# EAGLE library part LPC4078FBD144 (library nxp_60_1_1)
32-bit ARM Cortex-M4 MCU; up to 512 kB flash, 96 kB SRAM; USB Device/Host/OTG; Ethernet; LCD; EMC; SPIFI The LPC408x/7x is an ARM Cortex-M4 based digital signal controller for embedded applications requiring a high level of integration and low power dissipation. The ARM Cortex-M4 is a next generation core that offers system enhancements such as low power consumption, enhanced debug features, and a high level of support block integration. The ARM Cortex-M4 CPU incorporates a 3-stage pipeline, uses a Harvard architecture with separate local instruction and data buses as well as a third bus for peripherals, and includes an internal prefetch unit that supports speculative branching. The ARM Cortex-M4 supports single-cycle digital signal processing and SIMD instructions. A hardware floating-point processor is integrated in the core for several versions of the part. The LPC408x/7x adds a specialized flash memory accelerator to accomplish optimal performance when executing code from flash. The LPC408x/7x is targeted to operate at up to 120 MHz CPU frequency. The peripheral complement of the LPC408x/7x includes up to 512 kB of flash program memory, up to 96 kB of SRAM data memory, up to 4032 byte of EEPROM data memory, External Memory controller (EMC), LCD, Ethernet, USB Device/Host/OTG, an SPI Flash Interface (SPIFI), a General Purpose DMA controller, five UARTs, three SSP controllers, three I 2 C-bus interfaces, a Quadrature Encoder Interface, four general purpose timers, two general purpose PWMs with six outputs each and one motor control PWM, an ultra-low power RTC with separate battery supply and event recorder, a windowed watchdog timer, a CRC calculation engine and up to 165 general purpose I/O pins. The analog peripherals include one eight-channel 12-bit ADC, two analog comparators, and a DAC. The pinout of LPC408x/7x is intended to allow pin function compatibility with the LPC24xx/23xx as well as the LPC178x/7x families. AAL Eindhoven MK
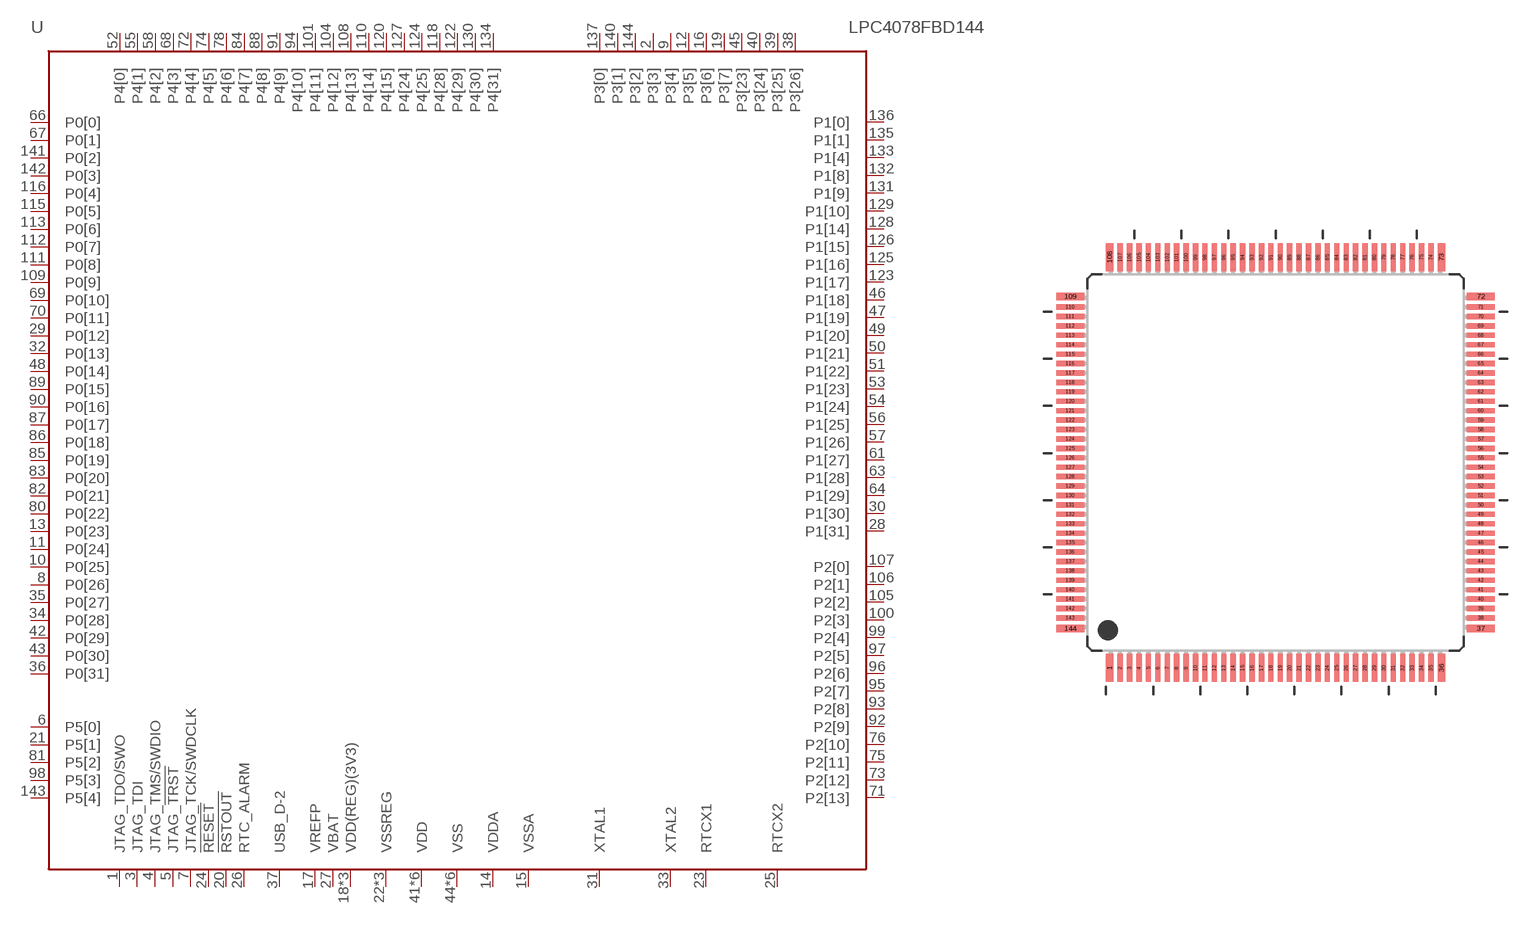
[diagram p140: symbol with the pads of SOT486-1; footprint SOT486-1]

Designator prefix U

## LPC4078FBD144  [SOT486-1]
1  JTAG_TDO/SWO  out
2  P3[3]
3  JTAG_TDI  in
4  JTAG_TMS/SWDIO  in
5  JTAG_!TRST  in
6  P5[0]
7  JTAG_TCK/SWDCLK  in
8  P0[26]
9  P3[4]
10  P0[25]
11  P0[24]
12  P3[5]
13  P0[23]
14  VDDA  pwr
15  VSSA  pwr
16  P3[6]
17  VREFP  pwr
18  VDD(REG)(3V3)  pwr
19  P3[7]
20  !RSTOUT!  out
21  P5[1]
22  VSSREG  pwr
23  RTCX1  in
24  !RESET!  in
25  RTCX2  out
26  RTC_ALARM  out
27  VBAT  pwr
28  P1[31]
29  P0[12]
30  P1[30]
31  XTAL1  in
32  P0[13]
33  XTAL2  out
34  P0[28]
35  P0[27]
36  P0[31]
37  USB_D-2
38  P3[26]
39  P3[25]
40  P3[24]
41  VDD  pwr
42  P0[29]
43  P0[30]
44  VSS  pwr
45  P3[23]
46  P1[18]
47  P1[19]
48  P0[14]
49  P1[20]
50  P1[21]
51  P1[22]
52  P4[0]
53  P1[23]
54  P1[24]
55  P4[1]
56  P1[25]
57  P1[26]
58  P4[2]
59  VSSREG  pwr
60  VDD(REG)(3V3)  pwr
61  P1[27]
62  VDD  pwr
63  P1[28]
64  P1[29]
65  VSS  pwr
66  P0[0]
67  P0[1]
68  P4[3]
69  P0[10]
70  P0[11]
71  P2[13]
72  P4[4]
73  P2[12]
74  P4[5]
75  P2[11]
76  P2[10]
77  VDD  pwr
78  P4[6]
79  VSS  pwr
80  P0[22]
81  P5[2]
82  P0[21]
83  P0[20]
84  P4[7]
85  P0[19]
86  P0[18]
87  P0[17]
88  P4[8]
89  P0[15]
90  P0[16]
91  P4[9]
92  P2[9]
93  P2[8]
94  P4[10]
95  P2[7]
96  P2[6]
97  P2[5]
98  P5[3]
99  P2[4]
100  P2[3]
101  P4[11]
102  VDD  pwr
103  VSS  pwr
104  P4[12]
105  P2[2]
106  P2[1]
107  P2[0]
108  P4[13]
109  P0[9]
110  P4[14]
111  P0[8]
112  P0[7]
113  P0[6]
114  VDD  pwr
115  P0[5]
116  P0[4]
117  VSS  pwr
118  P4[28]
119  VSSREG  pwr
120  P4[15]
121  VDD(REG)(3V3)  pwr
122  P4[29]
123  P1[17]
124  P4[25]
125  P1[16]
126  P1[15]
127  P4[24]
128  P1[14]
129  P1[10]
130  P4[30]
131  P1[9]
132  P1[8]
133  P1[4]
134  P4[31]
135  P1[1]
136  P1[0]
137  P3[0]
138  VDD  pwr
139  VSS  pwr
140  P3[1]
141  P0[2]
142  P0[3]
143  P5[4]
144  P3[2]

## Footprint SOT486-1 (pad centres in mm)
SOT486-1 LQFP144: plastic low profile quad flat package; 144 leads; body 20 x 20 x 1.4 mm JEDEC: MS-026 IEC: 136E23
smd 0.4 x 1.5: 1 -8.81,-10.9; 36 8.81,-10.9; 73 8.81,10.9; 108 -8.81,10.9
smd 0.28 x 1.5: 2 -8.25,-10.9; 3 -7.75,-10.9; 4 -7.25,-10.9; 5 -6.75,-10.9; 6 -6.25,-10.9; 7 -5.75,-10.9; 8 -5.25,-10.9; 9 -4.75,-10.9; 10 -4.25,-10.9; 11 -3.75,-10.9; 12 -3.25,-10.9; 13 -2.75,-10.9; 14 -2.25,-10.9; 15 -1.75,-10.9; 16 -1.25,-10.9; 17 -0.75,-10.9; 18 -0.25,-10.9; 19 0.25,-10.9; 20 0.75,-10.9; 21 1.25,-10.9; 22 1.75,-10.9; 23 2.25,-10.9; 24 2.75,-10.9; 25 3.25,-10.9; 26 3.75,-10.9; 27 4.25,-10.9; 28 4.75,-10.9; 29 5.25,-10.9; 30 5.75,-10.9; 31 6.25,-10.9; 32 6.75,-10.9; 33 7.25,-10.9; 34 7.75,-10.9; 35 8.25,-10.9; 74 8.25,10.9; 75 7.75,10.9; 76 7.25,10.9; 77 6.75,10.9; 78 6.25,10.9; 79 5.75,10.9; 80 5.25,10.9; 81 4.75,10.9; 82 4.25,10.9; 83 3.75,10.9; 84 3.25,10.9; 85 2.75,10.9; 86 2.25,10.9; 87 1.75,10.9; 88 1.25,10.9; 89 0.75,10.9; 90 0.25,10.9; 91 -0.25,10.9; 92 -0.75,10.9; 93 -1.25,10.9; 94 -1.75,10.9; 95 -2.25,10.9; 96 -2.75,10.9; 97 -3.25,10.9; 98 -3.75,10.9; 99 -4.25,10.9; 100 -4.75,10.9; 101 -5.25,10.9; 102 -5.75,10.9; 103 -6.25,10.9; 104 -6.75,10.9; 105 -7.25,10.9; 106 -7.75,10.9; 107 -8.25,10.9
smd 1.5 x 0.4: 37 10.9,-8.81; 72 10.9,8.81; 109 -10.9,8.81; 144 -10.9,-8.81
smd 1.5 x 0.28: 38 10.9,-8.25; 39 10.9,-7.75; 40 10.9,-7.25; 41 10.9,-6.75; 42 10.9,-6.25; 43 10.9,-5.75; 44 10.9,-5.25; 45 10.9,-4.75; 46 10.9,-4.25; 47 10.9,-3.75; 48 10.9,-3.25; 49 10.9,-2.75; 50 10.9,-2.25; 51 10.9,-1.75; 52 10.9,-1.25; 53 10.9,-0.75; 54 10.9,-0.25; 55 10.9,0.25; 56 10.9,0.75; 57 10.9,1.25; 58 10.9,1.75; 59 10.9,2.25; 60 10.9,2.75; 61 10.9,3.25; 62 10.9,3.75; 63 10.9,4.25; 64 10.9,4.75; 65 10.9,5.25; 66 10.9,5.75; 67 10.9,6.25; 68 10.9,6.75; 69 10.9,7.25; 70 10.9,7.75; 71 10.9,8.25; 110 -10.9,8.25; 111 -10.9,7.75; 112 -10.9,7.25; 113 -10.9,6.75; 114 -10.9,6.25; 115 -10.9,5.75; 116 -10.9,5.25; 117 -10.9,4.75; 118 -10.9,4.25; 119 -10.9,3.75; 120 -10.9,3.25; 121 -10.9,2.75; 122 -10.9,2.25; 123 -10.9,1.75; 124 -10.9,1.25; 125 -10.9,0.75; 126 -10.9,0.25; 127 -10.9,-0.25; 128 -10.9,-0.75; 129 -10.9,-1.25; 130 -10.9,-1.75; 131 -10.9,-2.25; 132 -10.9,-2.75; 133 -10.9,-3.25; 134 -10.9,-3.75; 135 -10.9,-4.25; 136 -10.9,-4.75; 137 -10.9,-5.25; 138 -10.9,-5.75; 139 -10.9,-6.25; 140 -10.9,-6.75; 141 -10.9,-7.25; 142 -10.9,-7.75; 143 -10.9,-8.25